# Altium footprint library UVS-PcbLib.PcbLib: 37 footprints (part 3 of 3)
Each footprint in its own frame and in the unit in brackets; x right, y up, seen from the top. Pads: shape width x height; smd on the part's side, far side on the other; paste and mask are expansions set on the pad; w line width, h text height; cw(c..) or ccw(c..) is an arc to the next point about the centre after c.
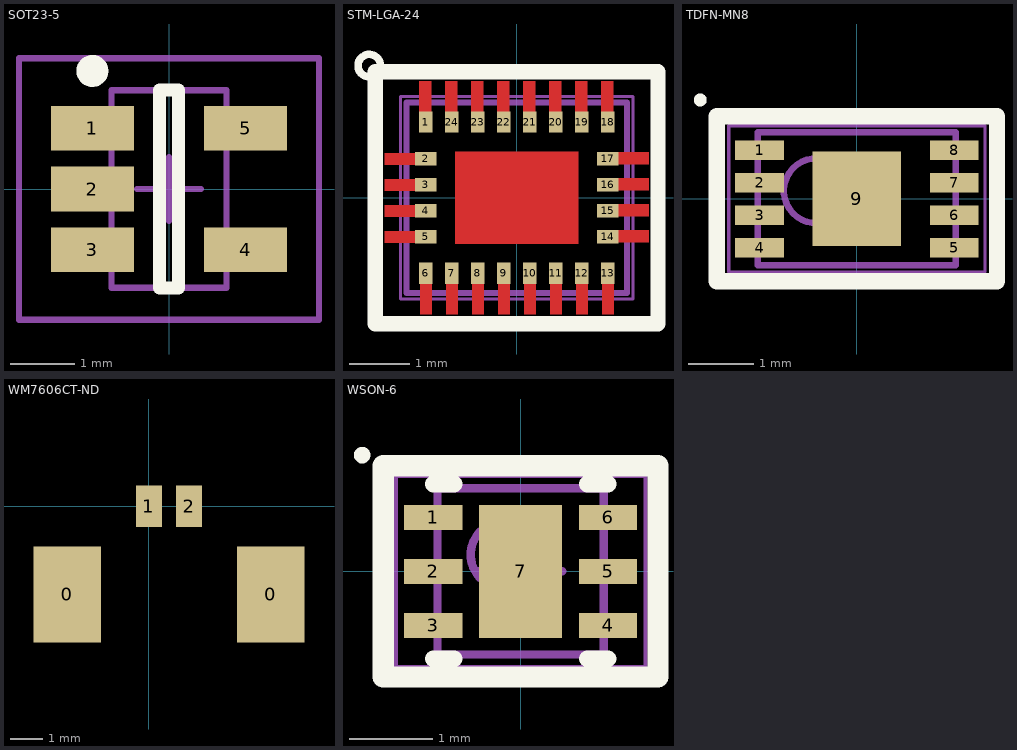
[diagram p2: the footprints below, top view; thin cyan lines are the x and y axes]

## SOT23-5 [mm] "SOT23, 5-Leads, Body 2.9x1.7mm, Pitch 0.95mm, Lead Span 2.8mm, IPC Low Density"
height 1.45
pads (5):
  rect 1.3x0.7 smd: 1(-1.2,0.95) 2(-1.2,0) 3(-1.2,-0.95) 4(1.2,-0.95) 5(1.2,0.95)
Top Overlay:
  circle w0.25: c-1.2,1.85 r0.125
  lines w0.2: -0.15,-1.55 0.15,-1.55 0.15,1.55 -0.15,1.55 -0.15,-1.55
Mechanical 13:
  lines w0.1: -0.9,-1.55 -0.9,1.55 0.9,1.55 0.9,-1.55 -0.9,-1.55
Mechanical 15:
  lines w0.1: -0.5,0 0.5,0 ; 0,-0.5 0,0.5 ; -2.35,-2.05 -2.35,2.05 2.35,2.05 2.35,-2.05 -2.35,-2.05
3D body: height 1.45, standoff 0, extent -0.9,-1.55 0.9,1.55

## STM-LGA-24 [mm] "LGA, 24-Leads, Body 3.65x3.15mm, Pitch 0.43mm"
height 1.027
pads (24):
  rect 0.23x0.35 smd mask+0.05: 1(-1.505,1.25) 6(-1.505,-1.25) 7(-1.075,-1.25) 8(-0.645,-1.25) 9(-0.215,-1.25) 10(0.215,-1.25) 11(0.645,-1.25) 12(1.075,-1.25) 13(1.505,-1.25) 18(1.505,1.25) 19(1.075,1.25) 20(0.645,1.25) 21(0.215,1.25) 22(-0.215,1.25) 23(-0.645,1.25) 24(-1.075,1.25)
  rect 0.35x0.23 smd mask+0.05: 2(-1.505,0.645) 3(-1.505,0.215) 4(-1.505,-0.215) 5(-1.505,-0.645) 14(1.505,-0.645) 15(1.505,-0.215) 16(1.505,0.215) 17(1.505,0.645)
Top Layer:
  region: -2.185,-0.55 -2.185,-0.753 -1.505,-0.753 -1.505,-0.55
  rectangle: -1.17,-1.93 -0.967,-1.25
  rectangle: -1.6,-1.93 -1.397,-1.25
  rectangle: -0.74,-1.93 -0.537,-1.25
  rectangle: -0.31,-1.93 -0.107,-1.25
  rectangle: 0.12,-1.93 0.323,-1.25
  rectangle: 0.55,-1.93 0.753,-1.25
  rectangle: 0.98,-1.93 1.183,-1.25
  rectangle: 1.41,-1.93 1.613,-1.25
  region: 2.185,-0.74 2.185,-0.537 1.505,-0.537 1.505,-0.74
  region: 2.185,-0.31 2.185,-0.107 1.505,-0.107 1.505,-0.31
  region: 2.185,0.12 2.185,0.323 1.505,0.323 1.505,0.12
  region: 2.185,0.55 2.185,0.753 1.505,0.753 1.505,0.55
  region: 1.6,1.93 1.397,1.93 1.397,1.25 1.6,1.25
  region: 1.17,1.93 0.967,1.93 0.967,1.25 1.17,1.25
  region: 0.74,1.93 0.537,1.93 0.537,1.25 0.74,1.25
  region: 0.31,1.93 0.107,1.93 0.107,1.25 0.31,1.25
  region: -0.12,1.93 -0.323,1.93 -0.323,1.25 -0.12,1.25
  region: -0.55,1.93 -0.753,1.93 -0.753,1.25 -0.55,1.25
  region: -0.98,1.93 -1.183,1.93 -1.183,1.25 -0.98,1.25
  region: -1.41,1.93 -1.613,1.93 -1.613,1.25 -1.41,1.25
  region: -2.185,0.74 -2.185,0.537 -1.505,0.537 -1.505,0.74
  region: -2.185,0.31 -2.185,0.107 -1.505,0.107 -1.505,0.31
  region: -2.185,-0.12 -2.185,-0.323 -1.505,-0.323 -1.505,-0.12
  pour cut-out: -1.016,0.762 1.016,0.762 1.016,-0.762 -1.016,-0.762
Top Overlay:
  circle w0.125: c-2.438,2.184 r0.187
  lines w0.254: -2.337,-2.083 -2.337,2.083 2.337,2.083 2.337,-2.083 -2.337,-2.083
Mechanical 13:
  lines w0.1: -1.825,-1.575 -1.825,1.575 1.825,1.575 1.825,-1.575 -1.825,-1.575
Mechanical 15:
  lines w0.05: -1.925,-1.675 -1.925,1.675 1.925,1.675 1.925,-1.675 -1.925,-1.675
  lines w0.1: -0.5,0 0.5,0 ; 0,-0.5 0,0.5
3D body: height 1.03, standoff 0, extent -1.825,-1.575 1.825,1.575

## TDFN-MN8 [mm] "SON, 8-Leads, Body 2x3mm, Pitch 0.5mm, Microchip Recommended"
height 0.8
pads (9):
  rect 0.75x0.3 smd: 1(-1.5,0.75) 2(-1.5,0.25) 3(-1.5,-0.25) 4(-1.5,-0.75) 5(1.5,-0.75) 6(1.5,-0.25) 7(1.5,0.25) 8(1.5,0.75)
  rect 1.36x1.46 smd: 9(0,0)
Top Overlay:
  circle w0.1: c-2.413,1.524 r0.05
  lines w0.254: -2.159,-1.27 2.159,-1.27 2.159,1.27 -2.159,1.27 -2.159,-1.27
Mechanical 13:
  circle w0.1: c-0.625,0.125 r0.5
  lines w0.1: -1.525,-1.025 1.525,-1.025 1.525,1.025 -1.525,1.025 -1.525,-1.025
Mechanical 15:
  lines w0.05: -1.975,-1.125 -1.975,1.125 1.975,1.125 1.975,-1.125 -1.975,-1.125
3D body: height 0.8, standoff 0, extent -1.524,-1.024 1.524,1.024

## WM7606CT-ND [mm]
pads (4):
  rect 2.1x3 smd: 0(-2.55,-2.75) 0(3.8,-2.75)
  rect 0.8x1.3 smd: 1(0,0) 2(1.25,0)
3D body "533980271.stp": height 4.72, standoff -0.02, extent -3.19,-3.759 4.46,0.441

## WSON-6 [mm] "SON, 6-Leads, Body 2x2mm, Pitch 0.65mm, Thermal Pad 1X1.6mm"
height 0.8
pads (7):
  rect 0.7x0.3 smd: 1(-1.05,0.65) 2(-1.05,0) 3(-1.05,-0.65) 4(1.05,-0.65) 5(1.05,0) 6(1.05,0.65)
  rect 1x1.6 smd: 7(0,0)
Top Overlay:
  circle w0.1: c-1.905,1.397 r0.05
  lines w0.2: -1.05,-1.05 -0.8,-1.05 ; -1.05,1.05 -0.8,1.05 ; 0.8,-1.05 1.05,-1.05 ; 0.8,1.05 1.05,1.05
  lines w0.254: -1.651,-1.27 1.651,-1.27 1.651,1.27 -1.651,1.27 -1.651,-1.27
Mechanical 13:
  circle w0.1: c-0.2,0.2 r0.4
  lines w0.1: -1,-1 -1,1 1,1 1,-1 -1,-1
Mechanical 15:
  lines w0.05: -1.5,-1.15 -1.5,1.15 1.5,1.15 1.5,-1.15 -1.5,-1.15
  lines w0.1: -0.5,0 0.5,0 ; 0,-0.5 0,0.5
3D body: height 0.8, standoff 0, extent -1,-1 1,1